# Altium schematic symbol library Schlib1.SchLib: 14 symbols
Pins are listed as number, name and electrical type; pins without a type are passive.

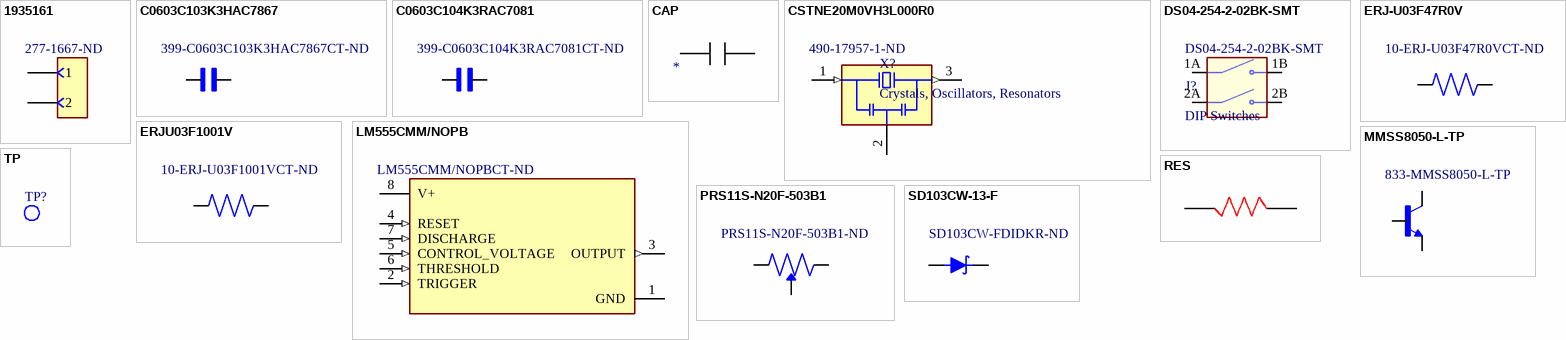
[diagram p0: symbols 1935161 to TP]

## 1935161
designator J?, comment 277-1667-ND
2 Position Wire to Board Terminal Block Horizontal with Board 0.197" (5.00mm) Through Hole.; Manufacturer: Phoenix Contact; Current: 18 A; Voltage: 300 V; Wire Gauge: 12-26 AWG; Pitch: 0.197" (5.00mm); Supplier 1: Digi-Key; Mating Orientation: Horizontal with Board; Mounting Type: Through Hole; Housing Material: Polyamide (PA), Nylon; Contact Material: Plating; Category: Connectors, Interconnects; Series: COMBICON PT; Supplier Part Number 1: 277-1667-ND
footprint TB_2PIN_1935161 (TERM BLK 2POS SIDE ENTRY 5MM PCB)
pins: 1, 2

## C0603C103K3HAC7867
designator C?, comment Supplier Part Number 1: 399-C0603C103K3HAC7867CT-ND  (hidden comment: 10000 pF)
10000 pF ±10% 25V Ceramic Capacitor X8R 0603 (1608 Metric).; Manufacturer: KEMET; Base Product Number: C0603C; Category: Capacitors Ceramic Capacitors; Series: SMD Comm X8R HT150C; Capacitance: 10000 pF; Tolerance: ±10%; Voltage - Rated: 25V; Temperature Coefficient: X8R; Operating Temperature: -55°C ~ 150°C; Applications: General Purpose; Mounting Type: Surface Mount, MLCC; Package / Case: 0603 (1608 Metric); Size / Dimension: 0.063" L x 0.031" W (1.60mm x 0.80mm); Thickness (Max): 0.034" (0.87mm); Supplier 1: Digi-Key
footprint CAP0603_C0603C103K3HACTU (CAP CER 10000PF 25V X8R 0603)
pins: 1, 2

## C0603C104K3RAC7081
designator C?, comment Supplier Part Number 1: 399-C0603C104K3RAC7081CT-ND  (hidden comment: 0.1 µF)
0.1 µF ±10% 25V Ceramic Capacitor X7R 0603 (1608 Metric).; Manufacturer: KEMET; Base Product Number: C0603C; Supplier 1: Digi-Key; Category: Capacitors Ceramic Capacitors; Series: SMD Comm X7R; Capacitance: 0.1 µF; Tolerance: ±10%; Voltage - Rated: 25V; Temperature Coefficient: X7R; Operating Temperature: -55°C ~ 125°C; Applications: Bypass, Decoupling; Mounting Type: Surface Mount, MLCC; Package / Case: 0603 (1608 Metric); Size / Dimension: 0.063" L x 0.031" W (1.60mm x 0.80mm); Thickness (Max): 0.037" (0.95mm)
footprint CAP0603_C0603C104K3RAC7081 (CAP CER 0.1UF 25V X7R 0603)
pins: 1, 2

## CAP
designator C1
Tolerance: +-1; Power: 1/10W
pins: 1, 2

## CSTNE20M0VH3L000R0
designator X?, comment Crystals, Oscillators, Resonators  Supplier Part Number 1: 490-17957-1-ND
Ceramic Resonator (20 MHz ) Built in Capacitor 15 pF ±0.2% 40 Ohms -40°C ~ 85°C Surface Mount; Manufacturer: Murata Electronics; Frequency: 20 MHz; Frequency Stability: ±0.11%; Frequency Tolerance: ±0.07%; Capacitance: 15 pF; Impedance: 40 Ohms; Supplier 1: Digi-Key; Category: Crystals, Oscillators, Resonators; Series: CERALOCK® CSTNE; Package: Tape & Reel (TR); Type: Ceramic; Features: Built in Capacitor; Operating Temperature: -40°C ~ 85°C; Mounting Type: Surface Mount; Size / Dimension: 0.126" L x 0.051" W (3.20mm x 1.30mm); Height: 0.039" (1.00mm); Parameter 1: *
pins: 1 IN (in), 2 GND (power), 3 OUT (out)

## DS04-254-2-02BK-SMT
designator J?, comment DIP Switches  Supplier Part Number 1: DS04-254-2-02BK-SMT
Dip Switch SPST 2 Position Surface Mount Slide (Standard) Actuator 25mA 24VDC; Manufacturer: CUI Devices; Actuator Level: Flush, Recessed; Pitch: 0.100" (2.54mm), Full; Body Material: Polybutylene Terephthalate (PBT); Base Product Number: DS04-254; Supplier 1: Arrow Electronics; Category: DIP Switches; Current Rating (Amps): 25mA; Voltage Rating: 24VDC; Actuator Type: Slide (Standard); Contact Material: Copper Alloy; Height Above Board: 0.167" (4.25mm); Mounting Type: Surface Mount; Operating Temperature: -40°C ~ 85°C; Length: 0.239" (6.08mm)
pins: 1A COM1, 1B NO1, 2A COM2, 2B NO2

## ERJ-U03F47R0V
designator R?, comment Supplier Part Number 1: 10-ERJ-U03F47R0VCT-ND  (hidden comment: 47 Ohms)
47 Ohms ±1% 0.1W, 1/10W Chip Resistor 0603 (1608 Metric) Anti-Sulfur, Automotive AEC-Q200 Thick Film.; Manufacturer: Panasonic Electronic Components; Temperature Coefficient: ±100ppm/°C; Base Product Number: ERJ-S03; Supplier 1: Digi-Key; Category: Resistors Chip Resistor - Surface Mount; Series: ERJ-S03; Power (Watts): 0.1W, 1/10W; Tolerance: ±1%; Composition: Thick Film; Features: Anti-Sulfur, Automotive AEC-Q200; Operating Temperature: -55°C ~ 155°C; Package / Case: 0603 (1608 Metric); Size / Dimension: 0.063" L x 0.031" W (1.60mm x 0.80mm); Height - Seated (Max): 0.022" (0.55mm); Resistance: 47 Ohms
footprint RES0603_ERJU03F47R0V (RES 47 OHM 1% 1/10W 0603 SMD)
pins: 1, 2

## ERJU03F1001V
designator R?, comment Supplier Part Number 1: 10-ERJ-U03F1001VCT-ND  (hidden comment: 1 kOhms)
1 kOhms ±1% 0.1W, 1/10W Chip Resistor 0603 (1608 Metric) Anti-Sulfur, Automotive AEC-Q200 Thick Film.; Manufacturer: Panasonic Electronic Components; Base Product Number: ERJ-U03; Temperature Coefficient: ±100ppm/°C; Resistance: 1 kOhms; Composition: Thick Film; Features: Anti-Sulfur, Automotive AEC-Q200; Category: Resistors Chip Resistor - Surface Mount; ComponentLink1Description: https://www.digikey.com.mx/en/products/detail/panasonic-electronic-components/ERJ-U03F1001V/11641677?utm_source=snapeda&utm_medium=aggregator&utm_campaign=buynow; ComponentLink1URL: *; Tolerance: ±1%; Height - Seated (Max): 0.022" (0.55mm); Operating Temperature: -55°C ~ 155°C; Series: ERJ-U03; Size / Dimension: 0.063" L x 0.031" W (1.60mm x 0.80mm); Power (Watts): 0.1W, 1/10W; Package / Case: 0603 (1608 Metric); Supplier 1: Digi-Key
footprint RES_ERJU03F1001V
footprint RES0603_ERJU03F1001V (RES 1K OHM 1% 1/10W 0603 SMD)
pins: 1, 2

## LM555CMM/NOPB
designator U?, comment LM555CMM/NOPBCT-ND
555 Type, Timer/Oscillator (Single) IC 100kHz 8-VSSOP.; Manufacturer: Texas Instruments; Voltage - Supply: 4.5V ~ 16V; Current - Supply: 10 mA; Base Product Number: LM555; Supplier 1: Digi-Key; Category: Integrated Circuits (ICs) Clock/Timing - Programmable Timers and Oscillators; Type: 555 Type, Timer/Oscillator (Single); Frequency: 100kHz; Operating Temperature: 0°C ~ 70°C; Package / Case: 8-TSSOP, 8-MSOP (0.118", 3.00mm Width); Mounting Type: Surface Mount; Manufacturer Product Number: LM555CMM/NOPB; Supplier Part Number 1: LM555CMM/NOPBCT-ND
footprint LM555SOP65P490X110-8N (IC OSC SGL TIMER 100KHZ 8VSSOP)
pins: 1 GND (power), 2 TRIGGER (in), 3 OUTPUT (out), 4 RESET (in), 5 CONTROL_VOLTAGE (in), 6 THRESHOLD (in), 7 DISCHARGE (in), 8 V+ (power)

## MMSS8050-L-TP
designator Q?, comment 833-MMSS8050-L-TP
Bipolar (BJT) Transistor NPN 25 V 1.5 A 100MHz 625 mW Surface Mount SOT-23.; Manufacturer: Micro Commercial Co; Current - Collector (Ic) (Max): 1.5 A; Voltage - Collector Emitter Breakdown (Max): 25 V; Vce Saturation (Max) @ Ib, Ic: 500mV @ 80mA, 800mA; Current - Collector Cutoff (Max): 100nA; DC Current Gain (hFE) (Min) @ Ic, Vce: 120 @ 100mA, 1V; Power - Max: 625 mW; Supplier 1: Mouser; Category: Discrete Semiconductor Products Transistors - Bipolar (BJT) - Single; Transistor Type: NPN; Frequency - Transition: 100MHz; Operating Temperature: -55°C ~ 150°C (TJ); Package / Case: TO-236-3, SC-59, SOT-23-3; Base Product Number: MMSS8050; Supplier Part Number 1: 833-MMSS8050-L-TP
footprint SOT23-MMSS8050-L-TP (TRANS NPN 25V 1.5A SOT-23)
pins: 1 B, 2 E, 3 C

## PRS11S-N20F-503B1
designator R?  Supplier Part Number 1: PRS11S-N20F-503B1-ND
50k Ohm 1 Gang Linear Surface Mount Potentiometer None 1.0 Kierros Carbon 0.05W, 1/20W Gull Wing.; Manufacturer: Bourns Inc.; Resistance (Ohms): 50 kΩ; Tolerance: ±20%; Adjustment Type: Top Adjustment; Rotation: 300°; Actuator Type: Flatted; Actuator Length: 0.787" (20.00mm); Actuator Diameter: 0.236" (6.00mm); Base Product Number: PRS11S; Supplier 1: Digi-Key; Category: Potentiometers, Variable Resistors Rotary Potentiometers, Rheostats; Series: Pro Audio PRS11S; Power (Watts): 0.05W, 1/20W; Taper: Linear; Resistive Material: Carbon; Termination Style: Gull Wing; Mounting Type: Surface Mount; Size - Body: Rectangular - 0.512" x 0.461" Face x 0.283" H (13.00mm x 11.70mm x 7.20mm)
footprint PRS11S-N20F-503B1 (POT 50K OHM 1/20W CARBON LINEAR)
pins: 1 CCW, 2 W, 3 CW

## RES
designator R1  (value not drawn)
pins: 1, 2

## SD103CW-13-F
designator D?, comment SD103CW-FDIDKR-ND
Diode Schottky 20 V 350mA (DC) Surface Mount SOD-123.; Manufacturer: Diodes Incorporated; Voltage - DC Reverse (Vr) (Max): 20 V; Voltage - Forward (Vf) (Max) @ If: 600 mV @ 200 mA; Speed: Fast Recovery =< 500ns, > 200mA (Io); Reverse Recovery Time (trr): 10 ns; Current - Reverse Leakage @ Vr: 5 µA @ 10 V; Capacitance @ Vr, F: 28pF @ 0V, 1MHz; Supplier 1: Digi-Key; Category: Discrete Semiconductor Products Diodes - Rectifiers - Single; Diode Type: Schottky; Current - Average Rectified (Io): 350mA (DC); Mounting Type: Surface Mount; Package / Case: SOD-123; Operating Temperature - Junction: -65°C ~ 125°C; Supplier Part Number 1: SD103CW-FDIDKR-ND
footprint SD103CW-13-F (DIODE SCHOTTKY 20V 350MA SOD123)
pins: A, C K

## TP
designator TP?  (value not drawn)
footprint TP
pins: 1